# EAGLE library part AS5145 (library upenn_digital)
AMS AS5145 12-Bit Magnetic Rotary Encoder.
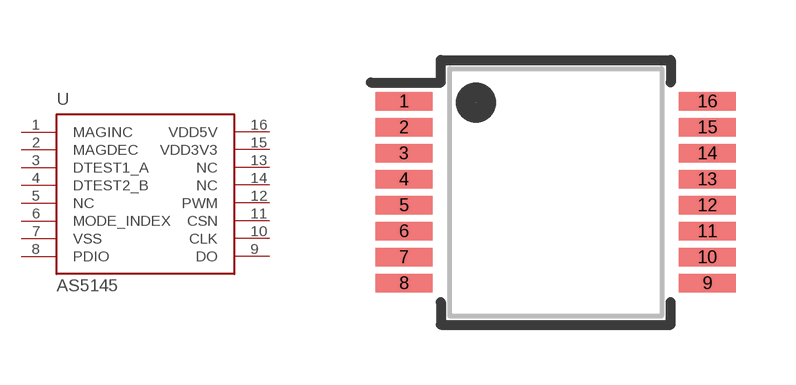
[diagram p1: symbol with the pads of SSOP16; footprint SSOP16]

Designator prefix U

## AS5145  [SSOP16]
1  MAGINC  hiz
2  MAGDEC  hiz
3  DTEST1_A  out
4  DTEST2_B  out
5  NC  nc
6  MODE_INDEX  out
7  VSS  pas
8  PDIO  in
9  DO  hiz
10  CLK  in
11  CSN  in
12  PWM  pas
13  NC  nc
14  NC  nc
15  VDD3V3  pas
16  VDD5V  pas

## Footprint SSOP16 (pad centres in mm)
smd 1.43 x 0.46: 1 -3.795,2.275; 2 -3.795,1.625; 3 -3.795,0.975; 4 -3.795,0.325; 5 -3.795,-0.325; 6 -3.795,-0.975; 7 -3.795,-1.625; 8 -3.795,-2.275; 9 3.795,-2.275; 10 3.795,-1.625; 11 3.795,-0.975; 12 3.795,-0.325; 13 3.795,0.325; 14 3.795,0.975; 15 3.795,1.625; 16 3.795,2.275